# Altium footprint library XFDFN-6 (1.2x1.2).PcbLib: 1 footprints
Each footprint in its own frame and in the unit in brackets; x right, y up, seen from the top. Pads: shape width x height; smd on the part's side, far side on the other; paste and mask are expansions set on the pad; w line width, h text height; cw(c..) or ccw(c..) is an arc to the next point about the centre after c.
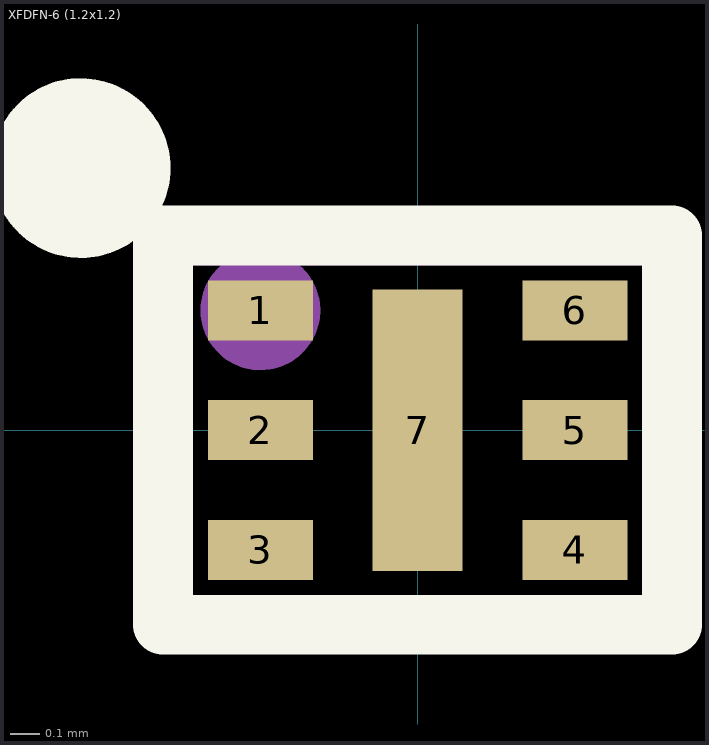
[diagram p0: the footprint, top view; thin cyan lines are the x and y axes]

## XFDFN-6 (1.2x1.2) [mm]
pads (7):
  rect 0.35x0.2 smd paste+0 mask+0.05: 1(-0.525,0.4) 2(-0.525,0) 3(-0.525,-0.4) 4(0.525,-0.4) 5(0.525,0) 6(0.525,0.4)
  rect 0.3x0.94 smd paste+0 mask+0.05: 7(0,0)
Top Overlay:
  circle w0.3: c-1.125,0.875 r0.15
  lines w0.2: -0.85,-0.65 0.85,-0.65 0.85,0.65 -0.85,0.65 -0.85,-0.65
Top Assembly:
  circle w0.2: c-0.525,0.4 r0.1
  lines w0.1: -0.8,-0.6 0.8,-0.6 0.8,0.6 -0.8,0.6 -0.8,-0.6
  text "'.Designator'" at 0,0 h0.7
3D body "XFDFN-6 (1.2x1.2).stp": height 0.55, standoff 0, extent -0.6,-0.6 0.6,0.6